# EAGLE library part B0570-BL_MODIFIED (library Labops_Lib_AH)
Flyback Transformer, B0570-BL, Coilcraft, 12Watt
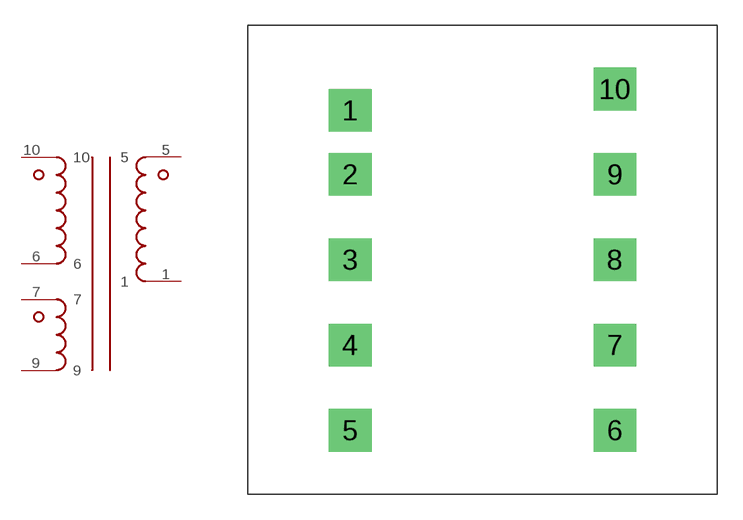
[diagram p68: symbol with the pads of B0570-BL_MODIFIED; footprint B0570-BL_MODIFIED]

Designator prefix TR

## B0570-BL_MODIFIEDB0570-BL-MODIFIED  [B0570-BL_MODIFIED]
1  1
5  5
6  6
7  7
9  9
10  10

## Footprint B0570-BL_MODIFIED (pad centres in mm)
drill 1.5 pad 2.54 square: 1 0,0; 2 0,-3.81; 3 0,-8.89; 4 0,-13.97; 5 0,-19.05; 6 15.75,-19.05; 7 15.75,-13.97; 8 15.75,-8.89; 9 15.75,-3.81; 10 15.75,1.27